# EAGLE library part MIC5219- (library Hermes_lib)
MIC5219 500mA-Peak Output LDO Regulator Datasheet <http://www.mouser.com/ds/2/268/mic5219-779135.pdf>
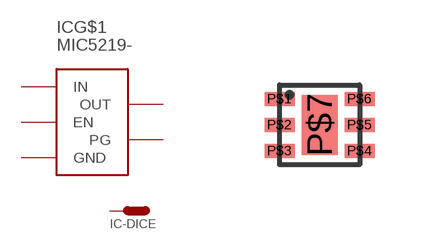
[diagram p2: symbol with the pads of MLF-6; footprint MLF-6]

Designator prefix IC; gates G$1=LDO -DICE=PIN

## MIC5219-3.3BML  [MLF-6]
P$1  G$1:EN
P$2  G$1:GND
P$3  G$1:IN
P$4  G$1:OUT
P$6  G$1:PG
P$7  -DICE:P$1

## Footprint MLF-6 (pad centres in mm)
smd 0.75 x 0.35: P$1 -1,0.65; P$2 -1,0; P$3 -1,-0.65; P$4 1,-0.65; P$5 1,0; P$6 1,0.65
smd 0.9 x 1.5: P$7 0,0